# EAGLE library part STM32H743IIT6 (library STM32H743IIT6)
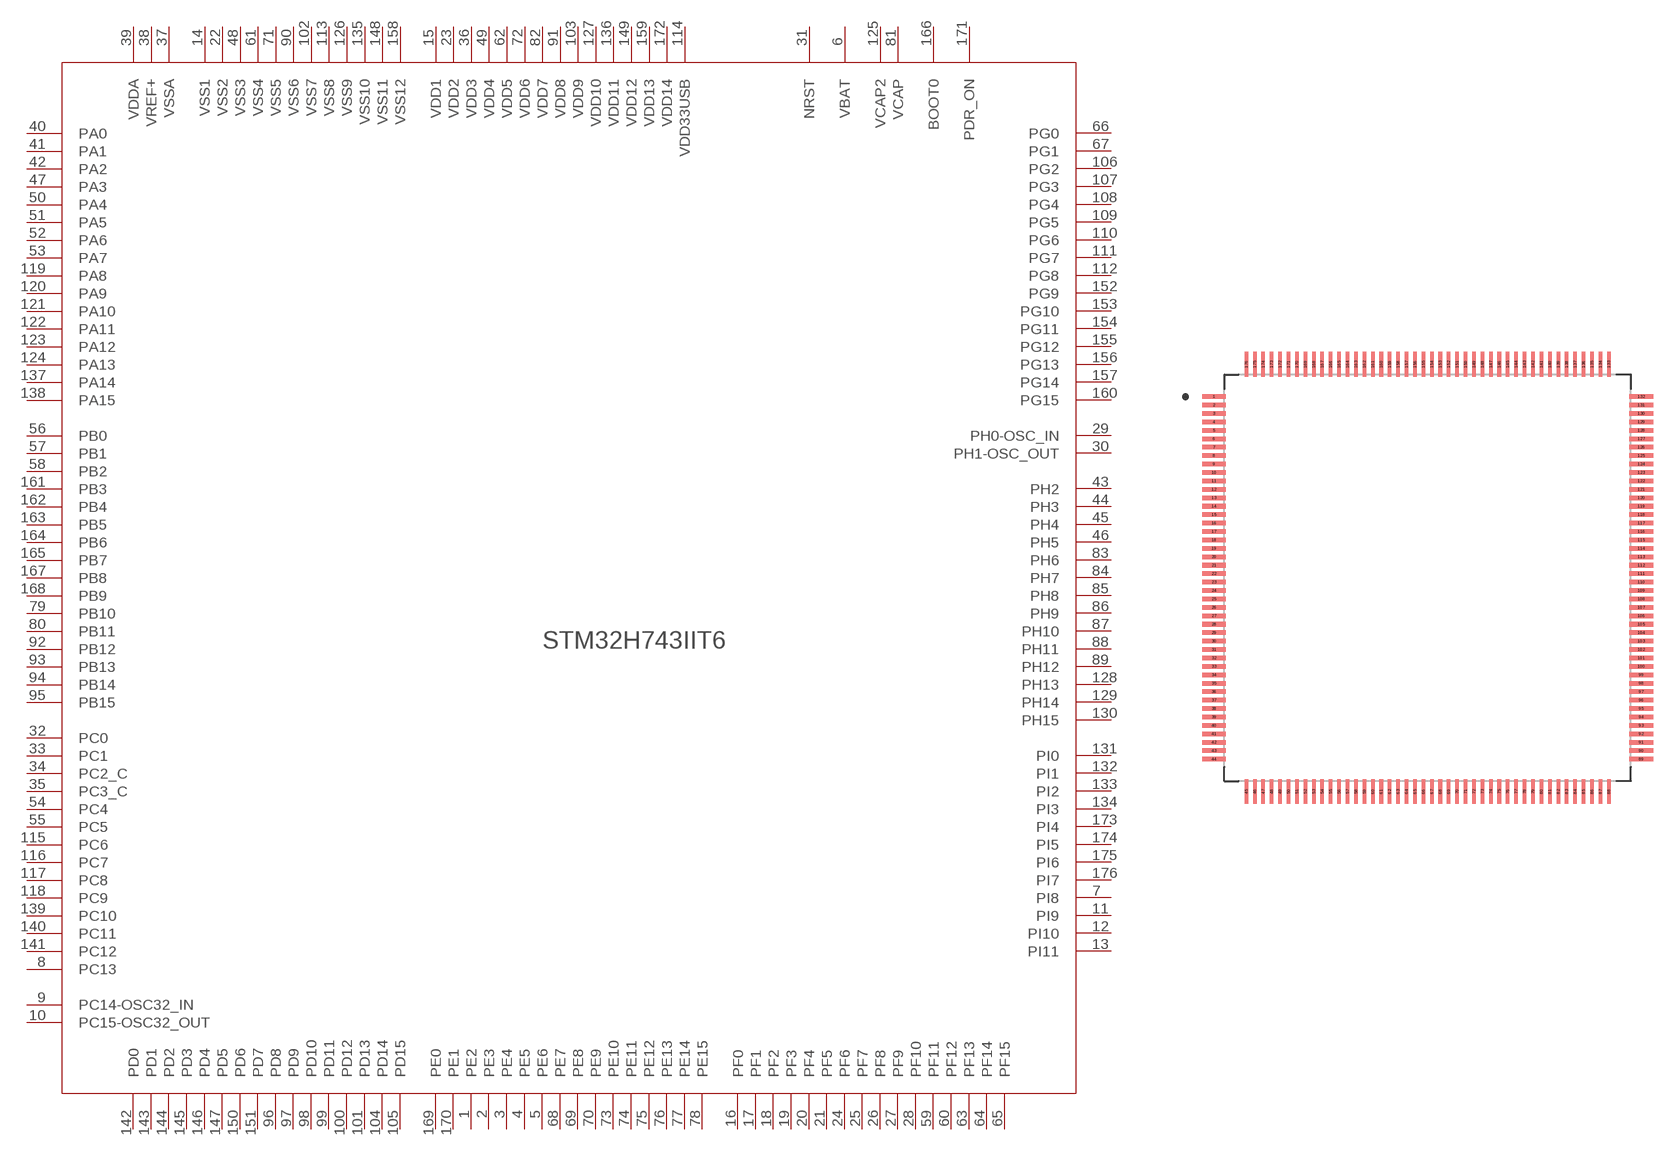
[diagram p0: symbol with the pads of QFP50P2600X2600X160-176N; footprint QFP50P2600X2600X160-176N]

Designator prefix -

## STM32H743IIT6  [QFP50P2600X2600X160-176N]
1  PE2
2  PE3
3  PE4
4  PE5
5  PE6
6  VBAT  pwr
7  PI8
8  PC13
9  PC14-OSC32_IN  oc
10  PC15-OSC32_OUT  oc
11  PI9
12  PI10
13  PI11
14  VSS1  pwr
15  VDD1  pwr
16  PF0
17  PF1
18  PF2
19  PF3
20  PF4
21  PF5
22  VSS2  pwr
23  VDD2  pwr
24  PF6
25  PF7
26  PF8
27  PF9
28  PF10
29  PH0-OSC_IN
30  PH1-OSC_OUT
31  NRST
32  PC0
33  PC1
34  PC2_C
35  PC3_C
36  VDD3  pwr
37  VSSA  pwr
38  VREF+
39  VDDA  pwr
40  PA0
41  PA1
42  PA2
43  PH2
44  PH3
45  PH4
46  PH5
47  PA3
48  VSS3  pwr
49  VDD4  pwr
50  PA4
51  PA5
52  PA6
53  PA7
54  PC4
55  PC5
56  PB0
57  PB1
58  PB2
59  PF11
60  PF12
61  VSS4  pwr
62  VDD5  pwr
63  PF13
64  PF14
65  PF15
66  PG0
67  PG1
68  PE7
69  PE8
70  PE9
71  VSS5  pwr
72  VDD6  pwr
73  PE10
74  PE11
75  PE12
76  PE13
77  PE14
78  PE15
79  PB10
80  PB11
81  VCAP
82  VDD7  pwr
83  PH6
84  PH7
85  PH8
86  PH9
87  PH10
88  PH11
89  PH12
90  VSS6  pwr
91  VDD8  pwr
92  PB12
93  PB13
94  PB14
95  PB15
96  PD8
97  PD9
98  PD10
99  PD11
100  PD12
101  PD13
102  VSS7  pwr
103  VDD9  pwr
104  PD14
105  PD15
106  PG2
107  PG3
108  PG4
109  PG5
110  PG6
111  PG7
112  PG8
113  VSS8  pwr
114  VDD33USB  pwr
115  PC6
116  PC7
117  PC8
118  PC9
119  PA8
120  PA9
121  PA10
122  PA11
123  PA12
124  PA13
125  VCAP2
126  VSS9  pwr
127  VDD10  pwr
128  PH13
129  PH14
130  PH15
131  PI0
132  PI1
133  PI2
134  PI3
135  VSS10  pwr
136  VDD11  pwr
137  PA14
138  PA15
139  PC10
140  PC11
141  PC12
142  PD0
143  PD1
144  PD2
145  PD3
146  PD4
147  PD5
148  VSS11  pwr
149  VDD12  pwr
150  PD6
151  PD7
152  PG9
153  PG10
154  PG11
155  PG12
156  PG13
157  PG14
158  VSS12  pwr
159  VDD13  pwr
160  PG15
161  PB3
162  PB4
163  PB5
164  PB6
165  PB7
166  BOOT0
167  PB8
168  PB9
169  PE0
170  PE1
171  PDR_ON
172  VDD14  pwr
173  PI4
174  PI5
175  PI6
176  PI7

## Footprint QFP50P2600X2600X160-176N (pad centres in mm)
smd 1.49 x 0.28: 1 -12.67,10.75; 2 -12.67,10.25; 3 -12.67,9.75; 4 -12.67,9.25; 5 -12.67,8.75; 6 -12.67,8.25; 7 -12.67,7.75; 8 -12.67,7.25; 9 -12.67,6.75; 10 -12.67,6.25; 11 -12.67,5.75; 12 -12.67,5.25; 13 -12.67,4.75; 14 -12.67,4.25; 15 -12.67,3.75; 16 -12.67,3.25; 17 -12.67,2.75; 18 -12.67,2.25; 19 -12.67,1.75; 20 -12.67,1.25; 21 -12.67,0.75; 22 -12.67,0.25; 23 -12.67,-0.25; 24 -12.67,-0.75; 25 -12.67,-1.25; 26 -12.67,-1.75; 27 -12.67,-2.25; 28 -12.67,-2.75; 29 -12.67,-3.25; 30 -12.67,-3.75; 31 -12.67,-4.25; 32 -12.67,-4.75; 33 -12.67,-5.25; 34 -12.67,-5.75; 35 -12.67,-6.25; 36 -12.67,-6.75; 37 -12.67,-7.25; 38 -12.67,-7.75; 39 -12.67,-8.25; 40 -12.67,-8.75; 41 -12.67,-9.25; 42 -12.67,-9.75; 43 -12.67,-10.25; 44 -12.67,-10.75; 89 12.67,-10.75; 90 12.67,-10.25; 91 12.67,-9.75; 92 12.67,-9.25; 93 12.67,-8.75; 94 12.67,-8.25; 95 12.67,-7.75; 96 12.67,-7.25; 97 12.67,-6.75; 98 12.67,-6.25; 99 12.67,-5.75; 100 12.67,-5.25; 101 12.67,-4.75; 102 12.67,-4.25; 103 12.67,-3.75; 104 12.67,-3.25; 105 12.67,-2.75; 106 12.67,-2.25; 107 12.67,-1.75; 108 12.67,-1.25; 109 12.67,-0.75; 110 12.67,-0.25; 111 12.67,0.25; 112 12.67,0.75; 113 12.67,1.25; 114 12.67,1.75; 115 12.67,2.25; 116 12.67,2.75; 117 12.67,3.25; 118 12.67,3.75; 119 12.67,4.25; 120 12.67,4.75; 121 12.67,5.25; 122 12.67,5.75; 123 12.67,6.25; 124 12.67,6.75; 125 12.67,7.25; 126 12.67,7.75; 127 12.67,8.25; 128 12.67,8.75; 129 12.67,9.25; 130 12.67,9.75; 131 12.67,10.25; 132 12.67,10.75
smd 0.28 x 1.49: 45 -10.75,-12.67; 46 -10.25,-12.67; 47 -9.75,-12.67; 48 -9.25,-12.67; 49 -8.75,-12.67; 50 -8.25,-12.67; 51 -7.75,-12.67; 52 -7.25,-12.67; 53 -6.75,-12.67; 54 -6.25,-12.67; 55 -5.75,-12.67; 56 -5.25,-12.67; 57 -4.75,-12.67; 58 -4.25,-12.67; 59 -3.75,-12.67; 60 -3.25,-12.67; 61 -2.75,-12.67; 62 -2.25,-12.67; 63 -1.75,-12.67; 64 -1.25,-12.67; 65 -0.75,-12.67; 66 -0.25,-12.67; 67 0.25,-12.67; 68 0.75,-12.67; 69 1.25,-12.67; 70 1.75,-12.67; 71 2.25,-12.67; 72 2.75,-12.67; 73 3.25,-12.67; 74 3.75,-12.67; 75 4.25,-12.67; 76 4.75,-12.67; 77 5.25,-12.67; 78 5.75,-12.67; 79 6.25,-12.67; 80 6.75,-12.67; 81 7.25,-12.67; 82 7.75,-12.67; 83 8.25,-12.67; 84 8.75,-12.67; 85 9.25,-12.67; 86 9.75,-12.67; 87 10.25,-12.67; 88 10.75,-12.67; 133 10.75,12.67; 134 10.25,12.67; 135 9.75,12.67; 136 9.25,12.67; 137 8.75,12.67; 138 8.25,12.67; 139 7.75,12.67; 140 7.25,12.67; 141 6.75,12.67; 142 6.25,12.67; 143 5.75,12.67; 144 5.25,12.67; 145 4.75,12.67; 146 4.25,12.67; 147 3.75,12.67; 148 3.25,12.67; 149 2.75,12.67; 150 2.25,12.67; 151 1.75,12.67; 152 1.25,12.67; 153 0.75,12.67; 154 0.25,12.67; 155 -0.25,12.67; 156 -0.75,12.67; 157 -1.25,12.67; 158 -1.75,12.67; 159 -2.25,12.67; 160 -2.75,12.67; 161 -3.25,12.67; 162 -3.75,12.67; 163 -4.25,12.67; 164 -4.75,12.67; 165 -5.25,12.67; 166 -5.75,12.67; 167 -6.25,12.67; 168 -6.75,12.67; 169 -7.25,12.67; 170 -7.75,12.67; 171 -8.25,12.67; 172 -8.75,12.67; 173 -9.25,12.67; 174 -9.75,12.67; 175 -10.25,12.67; 176 -10.75,12.67